# EAGLE library part SN74LVC07AD (library SamacSys_Parts)
SN74LVC07ADG4, 6-Bit Buffer, Driver, LVC, Open Drain, Non-Inverting 1.65 to 5.5V 14-Pin SOIC Source: Datasheet <http://www.ti.com/lit/ds/symlink/sn74lvc07a.pdf>
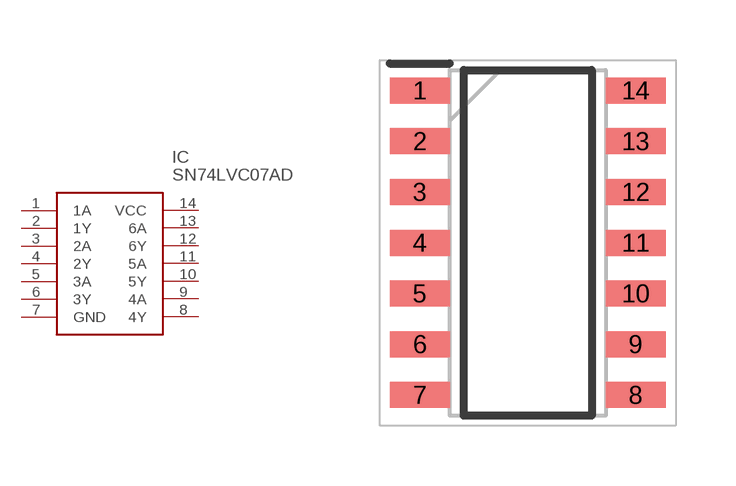
[diagram p153: symbol with the pads of SOIC127P600X175-14N; footprint SOIC127P600X175-14N]

Designator prefix IC

## SN74LVC07AD (DESCRIPTION: SN74LVC07ADG4, 6-Bit Buffer, Driver, LVC, Open Drain, Non-Inverting 1.65 to 5.5V 14-Pin SOIC; HEIGHT: 1.75mm; MANUFACTURER_NAME: Texas Instruments; MANUFACTURER_PART_NUMBER: SN74LVC07AD; MOUSER_PART_NUMBER: 595-SN74LVC07AD; MOUSER_PRICE-STOCK: https://www.mouser.co.uk/ProductDetail/Texas-Instruments/SN74LVC07AD?qs=8yeEWhuAOtMkbU1H3MsIVg%3D%3D)  [SOIC127P600X175-14N]
1  1A
2  1Y
3  2A
4  2Y
5  3A
6  3Y
7  GND
8  4Y
9  4A
10  5Y
11  5A
12  6Y
13  6A
14  VCC

## Footprint SOIC127P600X175-14N (pad centres in mm)
14-Lead(SL) SOIC
smd 1.5 x 0.65: 1 -2.7,3.81; 2 -2.7,2.54; 3 -2.7,1.27; 4 -2.7,0; 5 -2.7,-1.27; 6 -2.7,-2.54; 7 -2.7,-3.81; 8 2.7,-3.81; 9 2.7,-2.54; 10 2.7,-1.27; 11 2.7,0; 12 2.7,1.27; 13 2.7,2.54; 14 2.7,3.81